# Altium integrated library TI Power Management Power Over Ethernet.IntLib: 76 symbols (part 9 of 9)
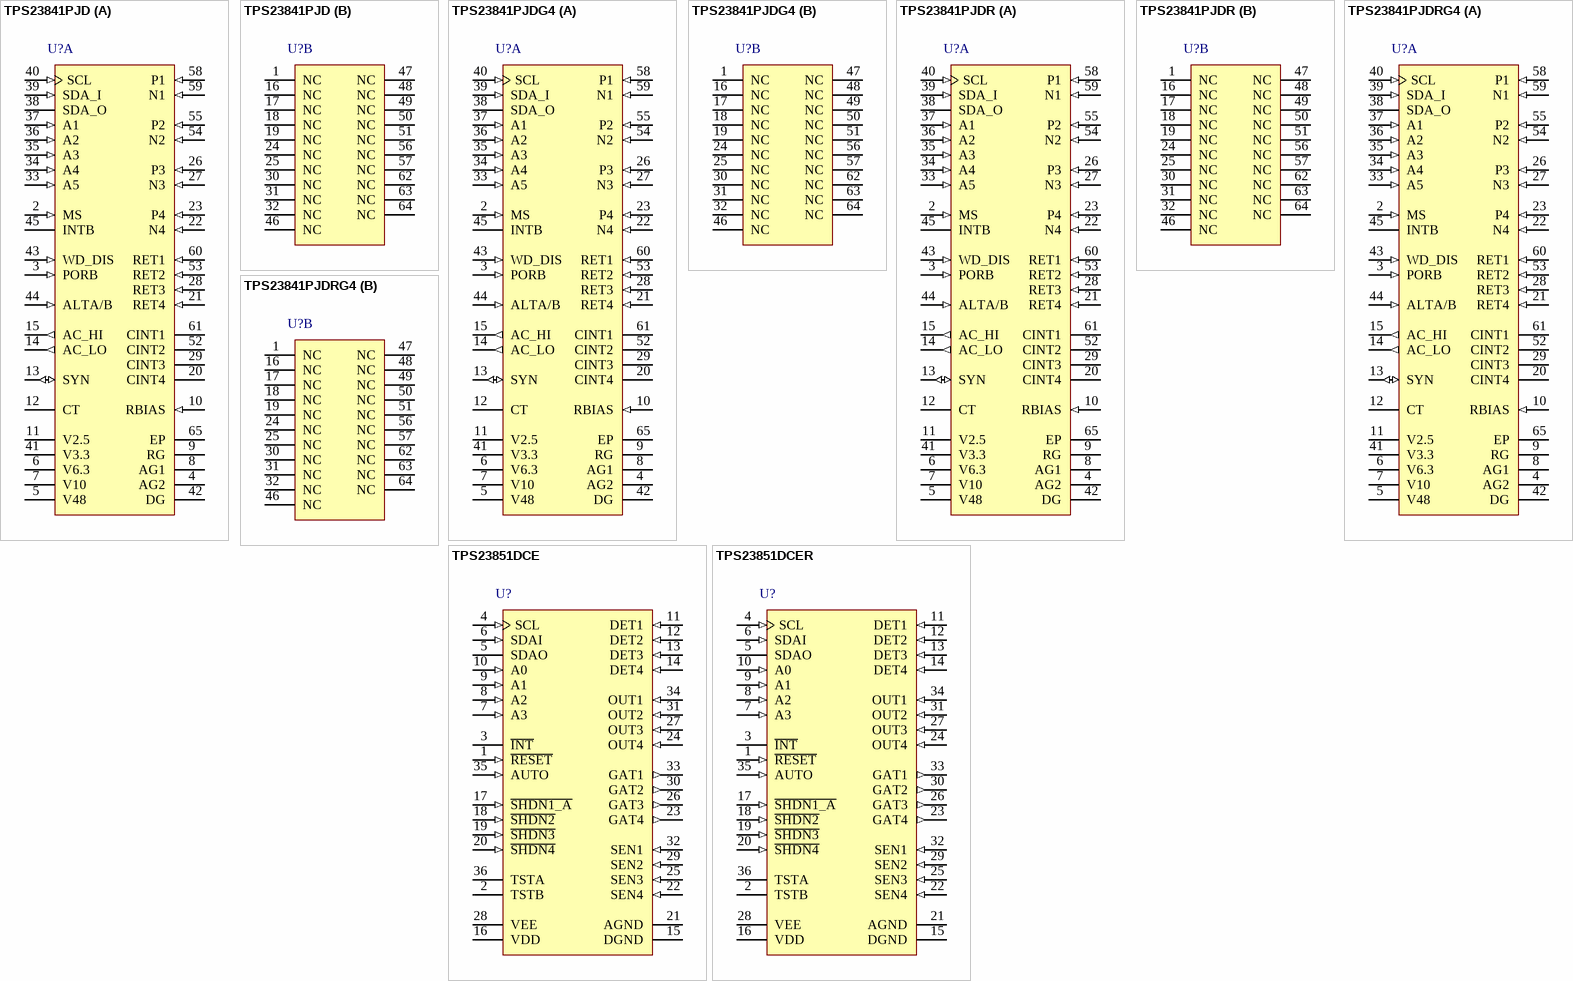
[diagram p11: symbols TPS23841PJD to TPS23851DCER]

## TPS23851DCE
designator U?
High Power Wide Voltage Range Quad Port Ethernet Power Sourcing Equipment Manager, -20 to 125 degC, 36-pin SOP (DCE36), Green (RoHS & no Sb/Br); Manufacturer: Texas Instruments; PartNumber: TPS23851DCE; Adjustable Current Limit(Min)(A): 0.052; Integrated FET: TRUE; No. of Outputs: 4; Vin(Max)(V): 3.5; Vin(Min)(V): 3; DatasheetVersion: SLUSAB3; PackageVersion: 4201503/A; PackageReference: DCE36; PackageDescription: 36-Pin Plastic Small Outline, Body 15.39 x 7.5 mm, Pitch 0.8 mm; Supplier 1: Digi-Key; Supplier Part Number 1: 296-27845-5-ND; Supplier 2: Farnell; Supplier Part Number 2: 1863108; Supplier 3: Newark; Supplier Part Number 3: 91R2093; Supplier 4: Mouser; Supplier Part Number 4: 595-TPS23851DCE; Eco-Plan: Green (RoHS & no Sb/Br); Over Current Reporting: TRUE; Over Temp Reporting: TRUE; SubFamily: Power Sourcing Equipment; Mounting Technology: Surface Mount; ComponentLink1Description: Manufacturer URL; ComponentLink1URL: http://www.ti.com/; ComponentLink2Description: Datasheet; ComponentLink2URL: http://www.ti.com/general/docs/lit/getliterature.tsp?genericPartNumber=TPS23851&fileType=pdf; ComponentLink3Description: Package Specification; ComponentLink3URL: http://www.ti.com/litv/pdf/mpds053
footprint TI-DCE36_N (SOP, 36-Leads, Body 15.39x7.5mm, Pitch 0.8mm, IPC Medium Density)
footprint TI-DCE36_L (SOP, 36-Leads, Body 15.39x7.5mm, Pitch 0.8mm, IPC High Density)
footprint TI-DCE36_M (SOP, 36-Leads, Body 15.39x7.5mm, Pitch 0.8mm, IPC Low Density)
pins: 1 ~{RESET} (in) "Reset input. When asserted low, the TPS23851 will reset. This pin is internally pulled up to VDD.", 2 TSTB "Used for internal test modes only. Negative high voltage may appear if test mode is enabled. Leave this pin open.", 3 ~{INT} (oc) "Interrupt output. This pin asserts low when a bit in the interrupt register is asserted. This pin is updated between I2C transactions. This output is open-drain.", 4 SCL (in) "Serial clock input for I2C bus.", 5 SDAO (oc) "Serial data output for I2C bus. This pin can be connected to SDAI for non-isolated systems. This output is open-drain.", 6 SDAI (in) "Serial data input for I2C bus. This pin can be connected to SDAO for non-isolated systems.", 7 A3 (in) "I2C A3 Address lines. These pins are internally pulled up to VDD. Do not tie directly to a positive voltage source. (1) (2)", 8 A2 (in) "I2C A2 Address lines. These pins are internally pulled up to VDD. Do not tie directly to a positive voltage source. (1) (2)", 9 A1 (in) "I2C A1 Address lines. These pins are internally pulled up to VDD. Do not tie directly to a positive voltage source. (1) (2)", 10 A0 (in) "I2C A0 Address lines. These pins are internally pulled up to VDD. Do not tie directly to a positive voltage source. (1) (2)", 11 DET1 (in) "Port 1 detect sense.", 12 DET2 (in) "Port 2 detect sense.", 13 DET3 (in) "Port 3 detect sense.", 14 DET4 (in) "Port 4 detect sense.", 15 DGND (power) "Digital ground.", 16 VDD (power) "Digital supply.", 17 ~{SHDN1_A} (in) "Port 1 manual shutdown input or Port 1-4 multiplexed shutdown. This pin is internally pulled up to VDD.", 18 ~{SHDN2} (in) "Port 2 manual shutdown logic input. These pins are internally pulled up to VDD.", 19 ~{SHDN3} (in) "Port 3 manual shutdown logic input. These pins are internally pulled up to VDD.", 20 ~{SHDN4} (in) "Port 4 manual shutdown logic input. These pins are internally pulled up to VDD.", 21 AGND (power) "Analog ground.", 22 SEN4 (in) "Port 4 current sense input. Connect to current sense resistor.", 23 GAT4 (out) "Port 4 gate drive output.", 24 OUT4 (in) "Port 4 output voltage monitor. Connect to output port through a 10-kohm resistor.", 25 SEN3 (in) "Port 3 current sense input.", 26 GAT3 (out) "Port 3 gate drive output.", 27 OUT3 (in) "Port 3 output voltage monitor. Connect to output port through a 10-kohm resistor.", 28 VEE (power) "Analog supply.", 29 SEN2 (in) "Port 2 current sense input.", 30 GAT2 (out) "Port 2 gate drive output.", 31 OUT2 (in) "Port 2 output voltage monitor. Connect to output port through a 10-kohm resistor.", 32 SEN1 (in) "Port 1 current sense input.", 33 GAT1 (out) "Port 1 gate drive output.", 34 OUT1 (in) "Port 1 output voltage monitor. Connect to output port through a 10-kohm resistor.", 35 AUTO (in) "Mode select input. Asserting high on power-up puts the TPS23851 into auto mode. This pin is internally pulled down to DGND.", 36 TSTA "Used for internal test modes only. Negative high voltage may appear if test mode is enabled. Leave this pin open."

## TPS23851DCER
designator U?
High Power Wide Voltage Range Quad Port Ethernet Power Sourcing Equipment Manager, -20 to 125 degC, 36-pin SOP (DCE36), Green (RoHS & no Sb/Br); Manufacturer: Texas Instruments; PartNumber: TPS23851DCER; Adjustable Current Limit(Min)(A): 0.052; Integrated FET: TRUE; No. of Outputs: 4; Vin(Max)(V): 3.5; Vin(Min)(V): 3; DatasheetVersion: SLUSAB3; PackageVersion: 4201503/A; PackageReference: DCE36; PackageDescription: 36-Pin Plastic Small Outline, Body 15.39 x 7.5 mm, Pitch 0.8 mm; Supplier 1: Digi-Key; Supplier Part Number 1: TPS23851DCER-ND; Supplier 2: Mouser; Supplier Part Number 2: 595-TPS23851DCER; Eco-Plan: Green (RoHS & no Sb/Br); Over Current Reporting: TRUE; Over Temp Reporting: TRUE; SubFamily: Power Sourcing Equipment; Mounting Technology: Surface Mount; ComponentLink1Description: Manufacturer URL; ComponentLink1URL: http://www.ti.com/; ComponentLink2Description: Datasheet; ComponentLink2URL: http://www.ti.com/general/docs/lit/getliterature.tsp?genericPartNumber=TPS23851&fileType=pdf; ComponentLink3Description: Package Specification; ComponentLink3URL: http://www.ti.com/litv/pdf/mpds053
footprint TI-DCE36_N (SOP, 36-Leads, Body 15.39x7.5mm, Pitch 0.8mm, IPC Medium Density)
footprint TI-DCE36_L (SOP, 36-Leads, Body 15.39x7.5mm, Pitch 0.8mm, IPC High Density)
footprint TI-DCE36_M (SOP, 36-Leads, Body 15.39x7.5mm, Pitch 0.8mm, IPC Low Density)
pins: 1 ~{RESET} (in) "Reset input. When asserted low, the TPS23851 will reset. This pin is internally pulled up to VDD.", 2 TSTB "Used for internal test modes only. Negative high voltage may appear if test mode is enabled. Leave this pin open.", 3 ~{INT} (oc) "Interrupt output. This pin asserts low when a bit in the interrupt register is asserted. This pin is updated between I2C transactions. This output is open-drain.", 4 SCL (in) "Serial clock input for I2C bus.", 5 SDAO (oc) "Serial data output for I2C bus. This pin can be connected to SDAI for non-isolated systems. This output is open-drain.", 6 SDAI (in) "Serial data input for I2C bus. This pin can be connected to SDAO for non-isolated systems.", 7 A3 (in) "I2C A3 Address lines. These pins are internally pulled up to VDD. Do not tie directly to a positive voltage source. (1) (2)", 8 A2 (in) "I2C A2 Address lines. These pins are internally pulled up to VDD. Do not tie directly to a positive voltage source. (1) (2)", 9 A1 (in) "I2C A1 Address lines. These pins are internally pulled up to VDD. Do not tie directly to a positive voltage source. (1) (2)", 10 A0 (in) "I2C A0 Address lines. These pins are internally pulled up to VDD. Do not tie directly to a positive voltage source. (1) (2)", 11 DET1 (in) "Port 1 detect sense.", 12 DET2 (in) "Port 2 detect sense.", 13 DET3 (in) "Port 3 detect sense.", 14 DET4 (in) "Port 4 detect sense.", 15 DGND (power) "Digital ground.", 16 VDD (power) "Digital supply.", 17 ~{SHDN1_A} (in) "Port 1 manual shutdown input or Port 1-4 multiplexed shutdown. This pin is internally pulled up to VDD.", 18 ~{SHDN2} (in) "Port 2 manual shutdown logic input. These pins are internally pulled up to VDD.", 19 ~{SHDN3} (in) "Port 3 manual shutdown logic input. These pins are internally pulled up to VDD.", 20 ~{SHDN4} (in) "Port 4 manual shutdown logic input. These pins are internally pulled up to VDD.", 21 AGND (power) "Analog ground.", 22 SEN4 (in) "Port 4 current sense input. Connect to current sense resistor.", 23 GAT4 (out) "Port 4 gate drive output.", 24 OUT4 (in) "Port 4 output voltage monitor. Connect to output port through a 10-kohm resistor.", 25 SEN3 (in) "Port 3 current sense input.", 26 GAT3 (out) "Port 3 gate drive output.", 27 OUT3 (in) "Port 3 output voltage monitor. Connect to output port through a 10-kohm resistor.", 28 VEE (power) "Analog supply.", 29 SEN2 (in) "Port 2 current sense input.", 30 GAT2 (out) "Port 2 gate drive output.", 31 OUT2 (in) "Port 2 output voltage monitor. Connect to output port through a 10-kohm resistor.", 32 SEN1 (in) "Port 1 current sense input.", 33 GAT1 (out) "Port 1 gate drive output.", 34 OUT1 (in) "Port 1 output voltage monitor. Connect to output port through a 10-kohm resistor.", 35 AUTO (in) "Mode select input. Asserting high on power-up puts the TPS23851 into auto mode. This pin is internally pulled down to DGND.", 36 TSTA "Used for internal test modes only. Negative high voltage may appear if test mode is enabled. Leave this pin open."